# Altium footprint library ECS-80-12-30-JGM-TR.PcbLib: 1 footprints
Each footprint in its own frame and in the unit in brackets; x right, y up, seen from the top. Pads: shape width x height; smd on the part's side, far side on the other; paste and mask are expansions set on the pad; w line width, h text height; cw(c..) or ccw(c..) is an arc to the next point about the centre after c.
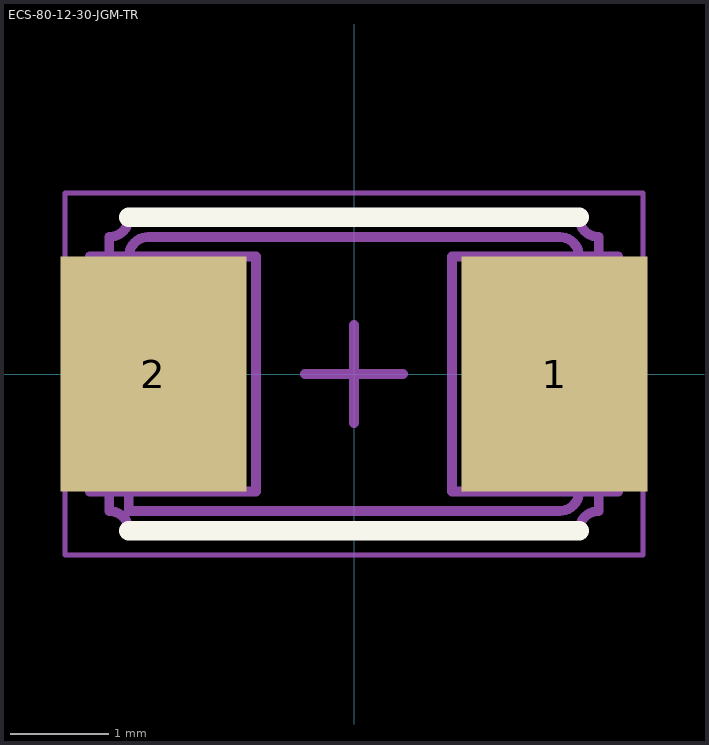
[diagram p0: the footprint, top view; thin cyan lines are the x and y axes]

## ECS-80-12-30-JGM-TR [mm]
pads (2):
  rect 1.9x2.4 smd: 1(2.05,0) 2(-2.05,0)
Top Overlay:
  lines w0.2: -2.3,-1.6 2.3,-1.6 ; -2.3,1.6 2.3,1.6
Mechanical 8:
  lines w0.1: -2.35,0 -1.85,0 ; -1.85,-0.5 -1.85,0 ; -1.85,0.5 -1.85,0 ; -1.35,0 -1.85,0 ; -0.5,0 0,0 ; 0,-0.5 0,0 ; 0,0.5 0,0 ; 0.5,0 0,0 ; 1.35,0 1.85,0 ; 1.85,-0.5 1.85,0 ; 1.85,0.5 1.85,0 ; 2.35,0 1.85,0 ; -2.7,-1.2 -1,-1.2 -1,1.2 -2.7,1.2 -2.7,-1.2 ; 1,-1.2 2.7,-1.2 2.7,1.2 1,1.2 1,-1.2
Mechanical 14:
  lines w0.1: -2.5,-1.4 cw(c-2.5,-1.6) -2.3,-1.6 2.3,-1.6 cw(c2.5,-1.6) 2.5,-1.4 2.5,-0.5 cw(c2.5,-0.4) 2.4,-0.4 2.4,0.4 cw(c2.5,0.4) 2.5,0.5 2.5,1.4 cw(c2.5,1.6) 2.3,1.6 -2.3,1.6 cw(c-2.5,1.6) -2.5,1.4 -2.5,0.5 cw(c-2.5,0.4) -2.4,0.4 -2.4,-0.4 cw(c-2.5,-0.4) -2.5,-0.5 -2.5,-1.4 ; -2.3,-1.4 2.1,-1.4 ccw(c2.1,-1.2) 2.3,-1.2 2.3,1.2 ccw(c2.1,1.2) 2.1,1.4 -2.1,1.4 ccw(c-2.1,1.2) -2.3,1.2 -2.3,-1.4
Mechanical 15:
  lines w0.05: -2.95,-1.85 2.95,-1.85 2.95,1.85 -2.95,1.85 -2.95,-1.85
3D body "XTAL_TXC_7A.stp": height 1.2, standoff 0, extent -2.5,-1.6 2.501,1.6